# EAGLE library part MOSFET-DUAL-N&P-PAIR (library Elecrow_Discrete)
Si5515CDC-->http://www.vishay.com/docs/68747/si5515cd.pdf Si5513CDC-->http://www.vishay.com/docs/68806/si5513cd.pdf Si5511CDC-->http://www.vishay.com/docs/73787/si5511dc.pdf Si5504BDC-->http://www.vishay.com/docs/74483/si5904bd.pdf
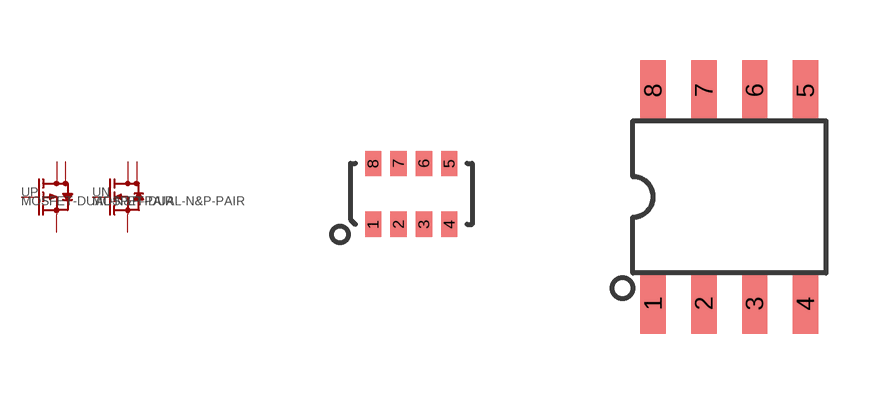
[diagram p4: symbol with the pads of 1206-8; footprints 1206-8, SOP08]

Designator prefix U; gates N=DUAL_N_MOS P=DUAL_P_MOS

## MOSFET-DUAL-N&P-PAIR-1206-8  [1206-8]
1  N:S  pas
2  N:G  pas
3  P:S  pas
4  P:G  pas
5  P:D  pas
6  P:D  pas
7  N:D  pas
8  N:D  pas

## MOSFET-DUAL-N&P-PAIR-SOP08  [SOP08]
Pads as for 1206-8

## Footprint 1206-8 (pad centres in mm)
vishay dual mosfet or single mosfet http://www.vishay.com/mosfets/chipfet-package/
smd 0.406 x 0.635: 1 -0.953,-0.762; 2 -0.318,-0.762; 3 0.318,-0.762; 4 0.953,-0.762; 5 0.953,0.762; 6 0.318,0.762; 7 -0.318,0.762; 8 -0.953,0.762

## Footprint SOP08 (pad centres in mm)
SMALL OUTLINE PACKAGE
smd 0.635 x 1.524: 1 -1.905,-2.667; 2 -0.635,-2.667; 3 0.635,-2.667; 4 1.905,-2.667; 5 1.905,2.667; 6 0.635,2.667; 7 -0.635,2.667; 8 -1.905,2.667